# Altium footprint library USON_8L_2x3.PcbLib: 1 footprints
Each footprint in its own frame and in the unit in brackets; x right, y up, seen from the top. Pads: shape width x height; smd on the part's side, far side on the other; paste and mask are expansions set on the pad; w line width, h text height; cw(c..) or ccw(c..) is an arc to the next point about the centre after c.
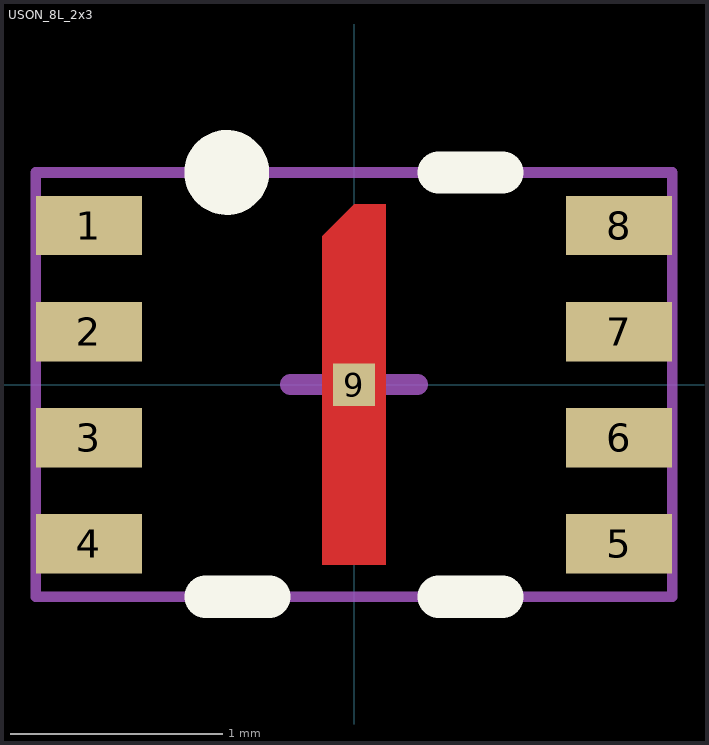
[diagram p0: the footprint, top view; thin cyan lines are the x and y axes]

## USON_8L_2x3 [mm]
height 0.6
pads (9):
  rect 0.5x0.28 smd mask+0.05: 1(-1.25,0.75) 2(-1.25,0.25) 3(-1.25,-0.25) 4(-1.25,-0.75) 5(1.25,-0.75) 6(1.25,-0.25) 7(1.25,0.25) 8(1.25,0.75)
  rect 0.2x0.2 smd mask+0.05: 9(0,0)
Top Layer:
  region: -0.15,-0.85 0.15,-0.85 0.15,0.85 0,0.85 -0.15,0.7
Top Overlay:
  circle w0.2: c-0.6,1 r0.1
  lines w0.2: -0.7,-1 -0.4,-1 ; 0.4,-1 0.7,-1 ; 0.4,1 0.7,1
Mechanical 15:
  lines w0.05: -1.5,-1 -1.5,1 1.5,1 1.5,-1 -1.5,-1
  lines w0.1: -0.3,0 0.3,0 ; 0,-0.3 0,0.3
3D body: height 0.6, standoff 0, extent -1.51,-1 1.51,1